# EAGLE library part 54602-908LF (library utesla)
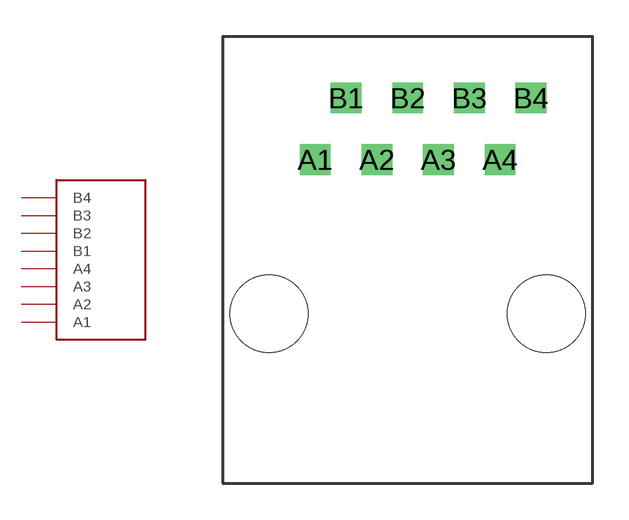
[diagram p10: symbol with the pads of MODJACK; footprint MODJACK]

Designator prefix -

## 54602-908LF  [MODJACK]
A1  A1
A2  A2
A3  A3
A4  A4
B1  B1
B2  B2
B3  B3
B4  B4

## Footprint MODJACK (pad centres in mm)
drill 0.76 square: A1 -3.81,0; A2 -1.27,0; A3 1.27,0; A4 3.81,0; B1 -2.54,2.54; B2 0,2.54; B3 2.54,2.54; B4 5.08,2.54
hole 3.2 at -5.715,-6.35
hole 3.2 at 5.715,-6.35